# EAGLE library part ADS1191 (library carrilib)
ECG Analog Frontend Manufacturer: TI Part Number: ADS1191
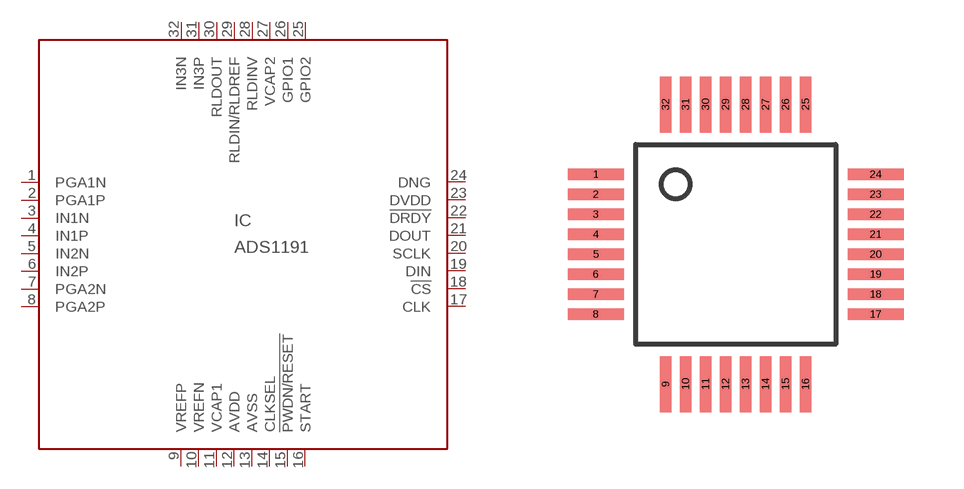
[diagram p28: symbol with the pads of PQFP32; footprint PQFP32]

Designator prefix IC

## ADS1191PBS  [PQFP32]
1  PGA1N  in
2  PGA1P  in
3  IN1N  in
4  IN1P  in
5  IN2N  in
6  IN2P  in
7  PGA2N  in
8  PGA2P  in
9  VREFP  pwr
10  VREFN  pwr
11  VCAP1  pwr
12  AVDD  pwr
13  AVSS  pwr
14  CLKSEL  in
15  !PWDN/RESET!  in
16  START  in
17  CLK  in
18  !CS!  in
19  DIN  in
20  SCLK  in
21  DOUT  out
22  !DRDY!  out
23  DVDD  pwr
24  DNG  pwr
25  GPIO2
26  GPIO1
27  VCAP2  pwr
28  RLDINV  in
29  RLDIN/RLDREF  in
30  RLDOUT  out
31  IN3P  in
32  IN3N  in

## Footprint PQFP32 (pad centres in mm)
smd 1.4 x 0.28: 1 -3.5,1.75; 2 -3.5,1.25; 3 -3.5,0.75; 4 -3.5,0.25; 5 -3.5,-0.25; 6 -3.5,-0.75; 7 -3.5,-1.25; 8 -3.5,-1.75; 17 3.5,-1.75; 18 3.5,-1.25; 19 3.5,-0.75; 20 3.5,-0.25; 21 3.5,0.25; 22 3.5,0.75; 23 3.5,1.25; 24 3.5,1.75
smd 0.28 x 1.4: 9 -1.75,-3.5; 10 -1.25,-3.5; 11 -0.75,-3.5; 12 -0.25,-3.5; 13 0.25,-3.5; 14 0.75,-3.5; 15 1.25,-3.5; 16 1.75,-3.5; 25 1.75,3.5; 26 1.25,3.5; 27 0.75,3.5; 28 0.25,3.5; 29 -0.25,3.5; 30 -0.75,3.5; 31 -1.25,3.5; 32 -1.75,3.5